# Altium schematic symbol library MPZ1608R391ATD25.SchLib: 1 symbol
Pins are listed as number, name and electrical type; pins without a type are passive.

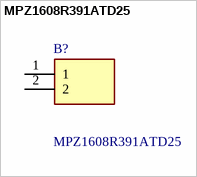
[diagram p0: symbol MPZ1608R391ATD25]

## MPZ1608R391ATD25
designator B?
TDK - MPZ1608R391ATD25 - Ferrite Bead, 0603 [1608 Metric], 390 ohm, 1.2 A, MPZ Series, 0.12 ohm, +/- 25%; Geometry.Height: 0.95mm; Mouser Part Number: 810-MPZ1608R391ATD25; Mouser Price/Stock: https://www.mouser.co.uk/ProductDetail/TDK/MPZ1608R391ATD25?qs=pvNC7ksEVIeI7hgKpuZ5dQ%3D%3D; Manufacturer_Name: TDK; Manufacturer_Part_Number: MPZ1608R391ATD25; Datasheet Link: https://product.tdk.com/system/files/dam/doc/product/emc/emc/beads/catalog/beads_automotive_power_mpz1608_en.pdf
footprint BEADC1608X95N
pins: 1, 2